# Altium schematic symbol library DIODE.SchLib: 6 symbols
Pins are listed as number, name and electrical type; pins without a type are passive.

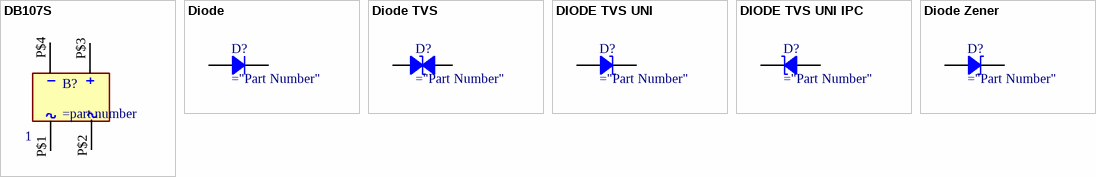
[diagram p0: symbols DB107S to Diode Zener]

## DB107S
designator B?
pins: P$1 (power), P$2 (power), P$3 (power), P$4 (power)
text: 1

## Diode
designator D?
Rectifier Diode
pins: 1, 2

## Diode TVS
designator D?
Zener Diode
pins: 1, 2

## DIODE TVS UNI
designator D?
Rectifier Diode
pins: 1, 2

## DIODE TVS UNI IPC
designator D?
Rectifier Diode
pins: 1, 2

## Diode Zener
designator D?
Zener Diode
pins: 1, 2